# Altium footprint library PCB_VoltageRegulators.PcbLib: 4 footprints
Each footprint in its own frame and in the unit in brackets; x right, y up, seen from the top. Pads: shape width x height; smd on the part's side, far side on the other; paste and mask are expansions set on the pad; w line width, h text height; cw(c..) or ccw(c..) is an arc to the next point about the centre after c.
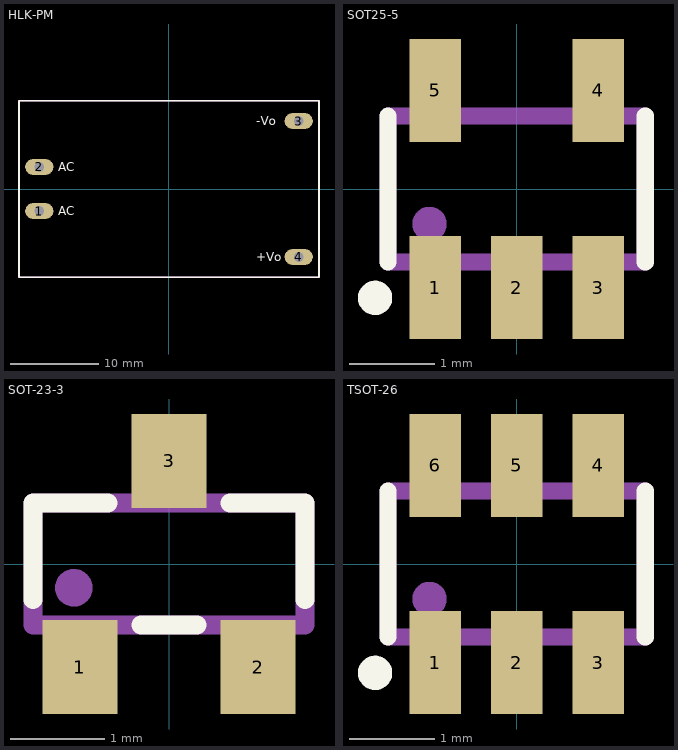
[diagram p0: the footprints below, top view; thin cyan lines are the x and y axes]

## HLK-PM [mm]
pads (4):
  oval 3.2x1.8 hole 1.1: 1(-14.7,-2.5) 2(-14.7,2.5) 3(14.7,7.7) 4(14.7,-7.7)
Top Overlay:
  lines w0.2: -17,-10 -17,10 17,10 17,-10 -17,-10
  text "AC" at -12.53,2 h1
  text "AC" at -12.53,-3 h1
  text "-Vo" at 9.864,7.2 h1
  text "+Vo" at 9.864,-8.2 h1
Top Assembly:
  lines w0.2: -17,-10 -17,10 17,10 17,-10 -17,-10
  text ".Designator" at -3.499,-0.233 h0.7
3D body "HLK-PM.STEP": height 15, standoff -5, extent -17,-10.1 17,10.1

## SOT25-5 [mm]
pads (5):
  rect 0.6x1.2 smd: 1(-0.95,-1.15) 2(0,-1.15) 3(0.95,-1.15) 4(0.95,1.15) 5(-0.95,1.15)
Top Overlay:
  circle w0.2: c-1.651,-1.27 r0.1
  lines w0.2: -1.5,-0.85 -1.5,0.85 ; 1.5,-0.85 1.5,0.85
Top Assembly:
  circle w0.2: c-1.016,-0.408 r0.1
  rectangle: -1.204,-1.397 -0.696,-0.762
  rectangle: 0.696,-1.397 1.204,-0.762
  rectangle: -0.254,-1.397 0.254,-0.762
  rectangle: 0.696,0.762 1.204,1.397
  rectangle: -1.204,0.762 -0.696,1.397
  lines w0.2: -1.5,-0.85 -1.5,0.85 1.5,0.85 1.5,-0.85 -1.5,-0.85
  text ".Designator" at -3.245,-0.233 h0.7
3D body "SOT25-5.STEP": height 1.45, standoff 0, extent -1.45,-1.4 1.45,1.4

## SOT-23-3 [mm]
pads (3):
  rect 0.8x1 smd: 1(-0.95,-1.1) 2(0.95,-1.1) 3(0,1.1)
Top Overlay:
  lines w0.2: -1.45,-0.381 -1.45,0.65 -0.65,0.65 ; -0.3,-0.65 0.3,-0.65 ; 0.65,0.65 1.45,0.65 1.45,-0.381
Top Assembly:
  circle w0.2: c-1.016,-0.254 r0.1
  rectangle: -0.254,0.635 0.254,1.27
  rectangle: -1.204,-1.27 -0.696,-0.635
  rectangle: 0.696,-1.27 1.204,-0.635
  lines w0.2: -1.45,-0.65 1.45,-0.65 1.45,0.65 -1.45,0.65 -1.45,-0.65
  text ".Designator" at -3.245,-0.233 h0.7
3D body "SOT-23-3.STEP": height 1.11, standoff 0.01, extent -1.45,-1.25 1.45,1.25

## TSOT-26 [mm]
pads (6):
  rect 0.6x1.2 smd: 1(-0.95,-1.15) 2(0,-1.15) 3(0.95,-1.15) 4(0.95,1.15) 5(0,1.15) 6(-0.95,1.15)
Top Overlay:
  circle w0.2: c-1.651,-1.27 r0.1
  lines w0.2: -1.5,-0.85 -1.5,0.85 ; 1.5,-0.85 1.5,0.85
Top Assembly:
  circle w0.2: c-1.016,-0.408 r0.1
  rectangle: -1.204,0.762 -0.696,1.397
  rectangle: 0.696,0.762 1.204,1.397
  rectangle: -0.254,-1.397 0.254,-0.762
  rectangle: 0.696,-1.397 1.204,-0.762
  rectangle: -1.204,-1.397 -0.696,-0.762
  rectangle: -0.254,0.762 0.254,1.397
  lines w0.2: -1.5,-0.85 1.5,-0.85 1.5,0.85 -1.5,0.85 -1.5,-0.85
  text ".Designator" at -3.245,-0.233 h0.7
3D body "SOT-23-6.STEP": height 1.45, standoff 0, extent -1.45,-1.4 1.45,1.4